# Altium footprint library SMD Diodes.PcbLib: 21 footprints (part 1 of 2)
Each footprint in its own frame and in the unit in brackets; x right, y up, seen from the top. Pads: shape width x height; smd on the part's side, far side on the other; paste and mask are expansions set on the pad; w line width, h text height; cw(c..) or ccw(c..) is an arc to the next point about the centre after c.
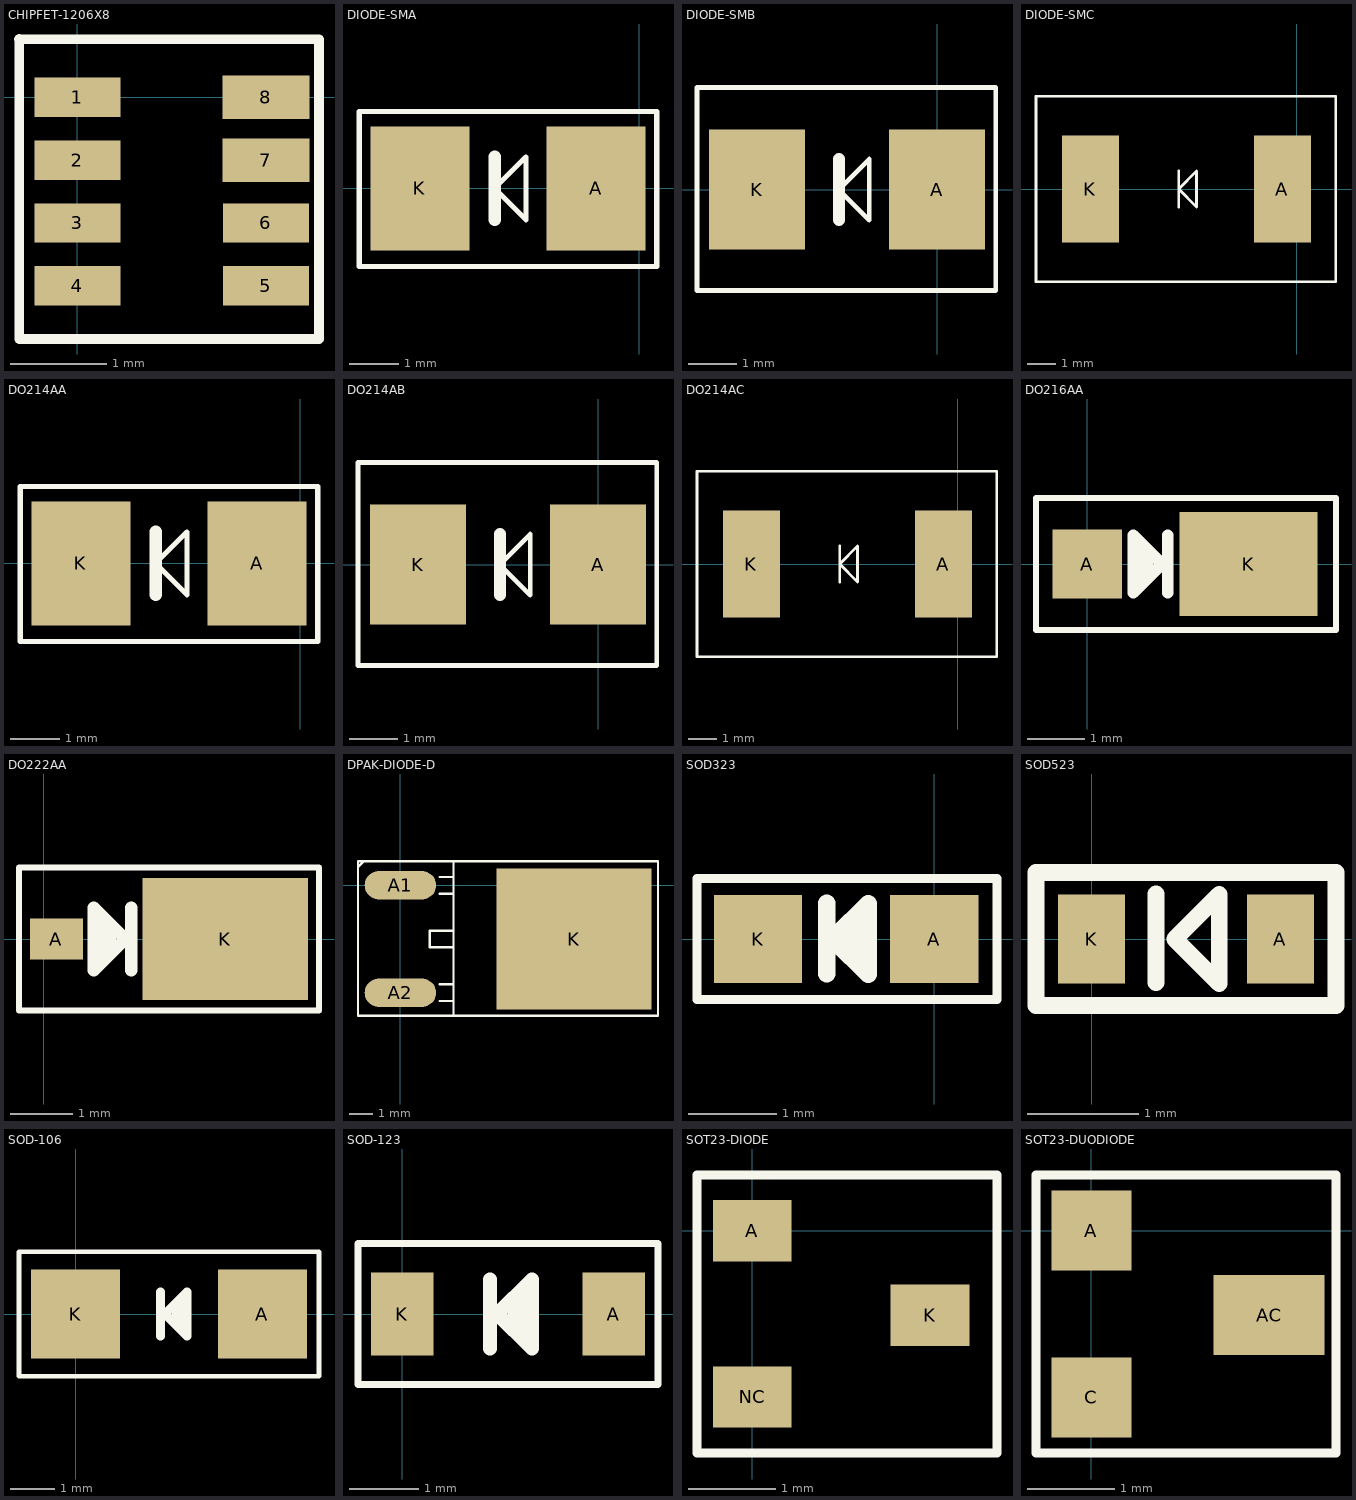
[diagram p0: the footprints below, top view; thin cyan lines are the x and y axes]

## CHIPFET-1206X8 [mm] "CHIPFET 1206-8"
pads (8):
  rect 0.889x0.406 smd: 1(0,0) 2(0,-0.65) 3(0,-1.3) 4(0,-1.95) 5(1.95,-1.95) 6(1.95,-1.3)
  rect 0.9x0.45 smd: 7(1.95,-0.65) 8(1.95,0)
Top Overlay:
  lines w0.102: -0.603,0.6 -0.6,0.603 -0.6,-2.5 2.5,-2.5 2.5,0.6 -0.603,0.6
3D body: height 1.1, standoff 0.1, extent 0.1,-2.413 1.8,0.508
3D body: height 0.22, standoff 0, extent -0.102,-2.153 0.127,-1.747
3D body: height 0.22, standoff 0, extent 1.6,-2.153 2.052,-1.747
3D body: height 0.22, standoff 0, extent 1.6,-1.503 2.052,-1.097
3D body: height 0.22, standoff 0, extent 1.6,-0.853 2.052,-0.447
3D body: height 0.22, standoff 0, extent 1.6,-0.203 2.052,0.203
3D body: height 0.22, standoff 0, extent -0.102,-1.503 0.127,-1.097
3D body: height 0.22, standoff 0, extent -0.102,-0.853 0.127,-0.447
3D body: height 1.33, standoff 1.3, extent 0.636,0.077 0.888,0.33
3D body: height 0.22, standoff 0, extent -0.102,-0.203 0.3,0.203

## DIODE-SMA [mm]
pads (2):
  rect 2x2.5 smd: A(-0.875,0) K(-4.425,0)
Top Overlay:
  lines w0.102: -5.65,-1.575 0.35,-1.575 0.35,1.55 -5.65,1.55 -5.65,-1.575 ; -2.921,0 -2.286,-0.635 -2.286,0 -2.286,0.635 -2.921,0
  lines w0.25: -2.921,-0.635 -2.921,0 -2.921,0.635
3D body "User Library-DO-214Aa SMA.step": height 2.4, standoff 0, extent -5.2,-1.3 0,1.3

## DIODE-SMB [mm]
pads (2):
  rect 2x2.5 smd: A(0,0) K(-3.75,0)
Top Overlay:
  lines w0.102: -5,-2.1 1.225,-2.1 1.225,2.125 -5,2.125 -5,-2.1 ; -2.046,0 -1.411,-0.635 -1.411,0 -1.411,0.635 -2.046,0
  lines w0.25: -2.046,-0.635 -2.046,0 -2.046,0.635
3D body: height 2, standoff 0.4, extent -4.175,-1.95 0.4,2
3D body: height 0.5, standoff 0, extent -2.375,-1.95 -1.275,2
3D body: height 2.2, standoff 0.5, extent -4.175,-1.95 0.4,2
3D body: height 2.23, standoff 2.2, extent -3.512,-1.8 -3.05,1.825
3D body: height 0.3, standoff 0, extent -0.175,-1.125 0.8,1.125
3D body: height 1.1, standoff 0.7, extent 0.375,-1.125 0.8,1.125
3D body: height 1.1, standoff 0, extent 0.5,-1.125 0.8,1.125
3D body: height 1.1, standoff 0, extent -4.575,-1.125 -4.275,1.125
3D body: height 1.1, standoff 0.7, extent -4.575,-1.125 -4.15,1.125
3D body: height 0.3, standoff 0, extent -4.575,-1.125 -3.6,1.125

## DIODE-SMC [mil]
pads (2):
  rect 80x150 smd: A(-19.68,0) K(-288.74,0)
Top Overlay:
  lines w4: -354.33,129.92 55,129.92 55,-129.92 10,-129.92 ; -320,129.92 -365,129.92 -365,-129.92 48.23,-129.92 ; -165,-25 -165,0 ; -165,25 -165,0 ; -165,0 -140,25 -140,0 -140,-25 -165,0
3D body "User Library-Diode Molded 5025Body.step": height 83.95, standoff -1.08, extent -309.05,-118.1 1.97,118.12

## DO214AA [mm]
pads (2):
  rect 2x2.5 smd: A(-0.875,0) K(-4.425,0)
Top Overlay:
  lines w0.102: -5.65,-1.575 -5.65,1.55 0.35,1.55 0.35,-1.575 -5.65,-1.575 ; -2.921,0 -2.286,0.635 -2.286,0 -2.286,-0.635 -2.921,0
  lines w0.25: -2.921,-0.635 -2.921,0 -2.921,0.635
3D body "User Library-DO-214Aa SMA.step": height 2.4, standoff 0, extent -5.2,-1.3 0,1.3

## DO214AB [mm]
pads (2):
  rect 2x2.5 smd: A(0,0) K(-3.75,0)
Top Overlay:
  lines w0.102: -5,-2.1 1.225,-2.1 1.225,2.125 -5,2.125 -5,-2.1 ; -2.046,0 -1.411,-0.635 -1.411,0 -1.411,0.635 -2.046,0
  lines w0.25: -2.046,-0.635 -2.046,0 -2.046,0.635
3D body: height 2, standoff 0.4, extent -4.175,-1.95 0.4,2
3D body: height 0.5, standoff 0, extent -2.375,-1.95 -1.275,2
3D body: height 2.2, standoff 0.5, extent -4.175,-1.95 0.4,2
3D body: height 2.23, standoff 2.2, extent -3.512,-1.8 -3.05,1.825
3D body: height 0.3, standoff 0, extent -0.175,-1.125 0.8,1.125
3D body: height 1.1, standoff 0.7, extent 0.375,-1.125 0.8,1.125
3D body: height 1.1, standoff 0, extent 0.5,-1.125 0.8,1.125
3D body: height 1.1, standoff 0, extent -4.575,-1.125 -4.275,1.125
3D body: height 1.1, standoff 0.7, extent -4.575,-1.125 -4.15,1.125
3D body: height 0.3, standoff 0, extent -4.575,-1.125 -3.6,1.125

## DO214AC [mil]
pads (2):
  rect 80x150 smd: A(-19.68,0) K(-288.74,0)
Top Overlay:
  lines w4: -354.33,129.92 55,129.92 55,-129.92 10,-129.92 ; -320,129.92 -365,129.92 -365,-129.92 48.23,-129.92 ; -165,-25 -165,0 ; -165,25 -165,0 ; -165,0 -140,-25 -140,0 -140,25 -165,0
3D body "User Library-Diode Molded 5025Body.step": height 83.95, standoff -1.08, extent -309.05,-118.1 1.97,118.12

## DO216AA [mm] "DO216AA ST-MITE"
pads (2):
  rect 1.2x1.2 smd: A(0,0)
  rect 2.4x1.8 smd: K(2.8,0)
Top Overlay:
  lines w0.102: -0.889,-1.143 4.318,-1.143 4.318,1.143 -0.889,1.143 -0.889,-1.143
  lines w0.2: 0.9,-0.3 0.9,0.3 ; 1.05,-0.15 1.05,0.15 ; 1.4,-0.5 1.4,0.5 ; 0.8,-0.5 0.8,0.5 1.3,0 0.8,-0.5
3D body: height 0.7, standoff 0, extent 0.6,-0.25 0.725,0.25
3D body: height 0.7, standoff 0.5, extent 0.6,-0.25 1.363,0.25
3D body: height 0.2, standoff 0, extent -0.2,-0.25 0.6,0.25
3D body: height 0.2, standoff 0, extent 3.225,-0.5 3.725,0.5
3D body: height 1, standoff 0, extent 1.325,-0.95 3.225,0.95
3D body: height 0.5, standoff 0, extent 1.6,0.95 3,0.975
3D body: height 0.5, standoff 0, extent 1.6,-0.975 3,-0.95

## DO222AA [mm] "DO216AA ST-MITE"
pads (2):
  rect 0.85x0.65 smd: A(0.2,0)
  rect 2.65x1.95 smd: K(2.9,0)
Top Overlay:
  lines w0.102: -0.4,-1.143 4.4,-1.143 4.4,1.143 -0.4,1.143 -0.4,-1.143
  lines w0.2: 0.9,-0.3 0.9,0.3 ; 1.05,-0.15 1.05,0.15 ; 1.4,-0.5 1.4,0.5 ; 0.8,-0.5 0.8,0.5 1.3,0 0.8,-0.5
3D body: height 0.7, standoff 0, extent 0.6,-0.25 0.725,0.25
3D body: height 0.7, standoff 0.5, extent 0.6,-0.25 1.363,0.25
3D body: height 0.2, standoff 0, extent -0.2,-0.25 0.6,0.25
3D body: height 0.2, standoff 0, extent 1.8,-0.9 4.1,0.9
3D body: height 1, standoff 0, extent 0.1,-0.95 3.9,0.95
3D body: height 0.5, standoff 0, extent 1.7,0.95 3.8,0.975
3D body: height 0.5, standoff 0, extent 1.7,-0.975 3.8,-0.95

## DPAK-DIODE-D [mm]
pads (3):
  oval 3x1.2 smd: A1(0,0) A2(0,-4.5)
  rect 6.5x5.9 smd: K(7.275,-2.25)
Top Overlay:
  lines w0.102: -1.778,0.762 -1.524,1.016 ; 1.65,-4.85 2.225,-4.85 ; 1.65,-4.15 2.225,-4.15 ; 1.65,-0.35 2.225,-0.35 ; 1.65,0.35 2.225,0.35 ; 2.225,-5.45 2.225,0.95 ; 2.225,-2.6 1.225,-2.6 1.225,-1.9 2.225,-1.9 ; -1.778,-5.461 -1.778,1.016 10.795,1.016 10.795,-5.461 -1.778,-5.461
3D body: height 0.51, standoff 0, extent -0.254,-0.504 0.965,0.461
3D body: height 1.52, standoff 0, extent 0.66,-0.504 0.965,0.461
3D body: height 1.52, standoff 1.02, extent 0.66,-0.504 2.388,0.461
3D body: height 1.52, standoff 1.02, extent 0.66,-5.004 2.388,-4.039
3D body: height 1.52, standoff 0, extent 0.66,-5.004 0.965,-4.039
3D body: height 1.27, standoff 0, extent 8.128,-4.978 9.982,0.559
3D body: height 0.51, standoff 0, extent -0.254,-5.004 0.965,-4.039
3D body: height 2, standoff 0, extent 2.184,-5.182 8.255,0.66
3D body: height 2.38, standoff 1.27, extent 2.184,-5.182 8.255,0.669
3D body: height 2.03, standoff 0, extent 4.521,-0.279 6.909,0.559

## SOD323 [mm]
pads (2):
  rect 1x1 smd: A(0,0) K(-2,0)
Top Overlay:
  lines w0.102: -2.692,-0.686 0.711,-0.686 0.711,0.686 -2.692,0.686 -2.692,-0.686
  lines w0.2: -1.219,-0.394 -1.219,0.406 ; -0.951,-0.2 -0.951,0.2 ; -1.151,0 -0.751,-0.4 -0.751,0.4 -1.151,0
3D body: height 0.25, standoff 0, extent -0.175,-0.2 0.175,0.15
3D body: height 0.25, standoff 0, extent -2.225,-0.175 -1.875,0.175
3D body: height 0.69, standoff 0, extent -2.025,-0.65 0,0.65
3D body: height 0.74, standoff 0.71, extent -1.9,-0.475 -1.725,0.5

## SOD523 [mm]
pads (2):
  rect 0.6x0.8 smd: A(1.7,0) K(0,0)
Top Overlay:
  lines w0.152: 0.581,-0.394 0.581,0.406 ; -0.5,-0.6 -0.5,0.6 2.2,0.6 2.2,-0.6 -0.5,-0.6 ; 0.749,0 1.149,0.4 1.149,-0.4 0.749,0
3D body: height 0.53, standoff 0.51, extent 0.275,-0.475 0.45,0.5
3D body: height 0.51, standoff 0, extent 0.15,-0.525 1.525,0.55
3D body: height 0.25, standoff 0, extent -0.05,-0.175 0.3,0.175
3D body: height 0.25, standoff 0, extent 1.4,-0.2 1.75,0.15

## SOD-106 [mm]
pads (2):
  rect 2x2 smd: A(4.191,0) K(0,0)
Top Overlay:
  lines w0.102: -1.27,-1.397 -1.27,1.397 5.461,1.397 5.461,-1.397 -1.27,-1.397
  lines w0.2: 1.902,-0.5 1.902,0.5 ; 2.252,-0.15 2.252,0.15 ; 2.402,-0.3 2.402,0.3 ; 2.002,0 2.502,-0.5 2.502,0.5 2.002,0
3D body: height 1.1, standoff 0, extent 4.475,-0.825 4.775,0.8
3D body: height 1.1, standoff 0.7, extent 4.35,-0.825 4.775,0.8
3D body: height 0.3, standoff 0, extent 3.8,-0.825 4.775,0.8
3D body: height 0.3, standoff 0, extent -0.525,-0.825 0.45,0.8
3D body: height 1.1, standoff 0.7, extent -0.525,-0.825 -0.1,0.8
3D body: height 1.1, standoff 0, extent -0.525,-0.825 -0.225,0.8
3D body: height 2.23, standoff 2.2, extent 0.463,-1.25 0.838,1.25
3D body: height 2.2, standoff 0.5, extent -0.125,-1.35 4.375,1.35
3D body: height 0.5, standoff 0, extent 1.6,-1.35 2.7,1.35
3D body: height 2, standoff 0.4, extent -0.125,-1.35 4.375,1.35

## SOD-123 [mm]
pads (2):
  rect 0.9x1.2 smd: A(3.048,0) K(0,0)
Top Overlay:
  lines w0.102: -0.635,-1.016 3.683,-1.016 3.683,1.016 -0.635,1.016 -0.635,-1.016
  lines w0.2: 1.267,-0.5 1.267,0.5 ; 1.617,-0.15 1.617,0.15 ; 1.767,-0.3 1.767,0.3 ; 1.367,0 1.867,0.5 1.867,-0.5 1.367,0
3D body: height 0.79, standoff 0.74, extent 0.475,-0.75 0.6,0.75
3D body: height 0.7, standoff 0, extent 0.013,-0.25 0.138,0.25
3D body: height 0.7, standoff 0.5, extent 0.125,-0.25 0.225,0.25
3D body: height 0.2, standoff 0, extent -0.175,-0.25 0.025,0.25
3D body: height 0.76, standoff 0, extent 0.225,-0.875 2.9,0.875
3D body: height 0.2, standoff 0, extent 3.1,-0.225 3.3,0.275
3D body: height 0.7, standoff 0.5, extent 2.9,-0.225 3,0.275
3D body: height 0.7, standoff 0, extent 2.987,-0.225 3.112,0.275

## SOT23-DIODE [mm] "SOT23 WITH A/K PIN NUMBERS"
pads (3):
  rect 0.9x0.7 smd: A(0,0) K(2.032,-0.965) NC(0,-1.9)
Top Overlay:
  lines w0.102: -0.632,0.28 -0.632,0.305 ; -0.632,0.381 -0.632,0.635 ; -0.276,0.635 -0.226,0.635 ; -0.251,0.635 -0.632,0.635 ; -0.632,0.635 -0.632,-2.54 2.797,-2.54 2.797,0.635 -0.632,0.635
3D body: height 1.33, standoff 1.3, extent 0.636,0.077 0.888,0.33
3D body: height 0.22, standoff 0, extent -0.102,-2.108 0.127,-1.702
3D body: height 0.62, standoff 0, extent 0.064,-2.108 0.292,-1.702
3D body: height 0.62, standoff 0.4, extent 0.279,-2.108 0.457,-1.702
3D body: height 0.62, standoff 0.4, extent 0.279,-0.203 0.457,0.203
3D body: height 0.62, standoff 0, extent 0.064,-0.203 0.292,0.203
3D body: height 0.22, standoff 0, extent -0.102,-0.203 0.127,0.203
3D body: height 1.3, standoff 0.1, extent 0.457,-2.413 1.778,0.508
3D body: height 0.62, standoff 0.4, extent 1.778,-1.143 1.956,-0.737
3D body: height 0.62, standoff 0, extent 1.943,-1.143 2.172,-0.737
3D body: height 0.22, standoff 0, extent 2.108,-1.143 2.337,-0.737

## SOT23-DUODIODE [mil]
pads (3):
  rect 36x36 smd: A(0,0) C(0,-75)
  rect 50x36 smd: AC(80,-38)
Top Overlay:
  lines w4: -24.88,11.02 -24.88,12.02 ; -24.88,15.02 -24.88,25.02 ; -10.88,25.02 -8.88,25.02 ; -9.88,25.02 -24.88,25.02 ; -24.88,25.02 -24.88,-99.98 110.12,-99.98 110.12,25.02 -24.88,25.02
3D body: height 8.66, standoff 0, extent 83,-45 92,-29
3D body: height 24.41, standoff 0, extent 76.5,-45 85.5,-29
3D body: height 24.41, standoff 15.75, extent 70,-45 77,-29
3D body: height 51.18, standoff 3.94, extent 18,-95 70,20
3D body: height 8.66, standoff 0, extent -4,-8 5,8
3D body: height 24.41, standoff 0, extent 2.5,-8 11.5,8
3D body: height 24.41, standoff 15.75, extent 11,-8 18,8
3D body: height 24.41, standoff 15.75, extent 11,-83 18,-67
3D body: height 24.41, standoff 0, extent 2.5,-83 11.5,-67
3D body: height 8.66, standoff 0, extent -4,-83 5,-67
3D body: height 52.18, standoff 51.18, extent 25.02,3.02 34.98,13